# EAGLE library part LTC3528 (library PowerProducts)
1A, 1MHz Synchronous Step-Up DC/DC Converters in 3mm x 2mm DFN
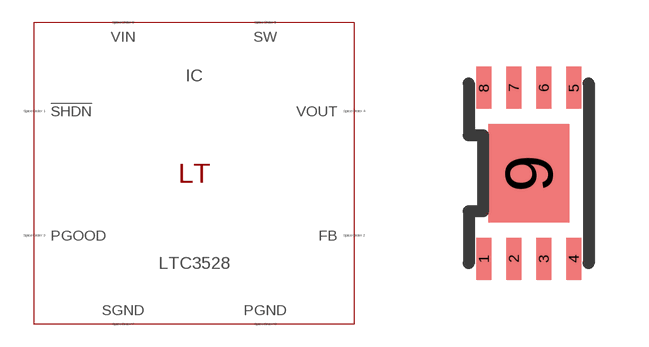
[diagram p214: symbol with the pads of DFN8(DDB); footprint DFN8(DDB)]

Designator prefix IC

## LTC3528 (SPICEMODEL: LTC3528.sub; SPICEPREFIX: X; VALUE2: LTC3528)  [DFN8(DDB)]
1  !SHDN  pas
2  FB  pas
3  PGOOD  pas
4  VOUT  pas
5  SW  pas
6  PGND  pas
7  SGND  pas
8  VIN  pas
9  SGND  pas

## Footprint DFN8(DDB) (pad centres in mm)
Package generated from: DFN8(DDB).asc (!PADS-POWERPCB-V5.0-BASIC! DESIGN DATABASE ASCII FILE 1.0) with :import-pads-powerpcb-v5.ulp Version 1.0.1 at 04.10.2012 14:11:17
smd 0.375 x 1.05: 1 -1.125,-2.138; 2 -0.375,-2.138; 3 0.375,-2.138; 4 1.125,-2.138; 5 1.125,2.138; 6 0.375,2.138; 7 -0.375,2.138; 8 -1.125,2.138
smd 2.025 x 2.475: 9 0,0